# Altium schematic symbol library Resistors.SchLib: 98 symbols (part 1 of 3)
Pins are listed as number, name and electrical type; pins without a type are passive.

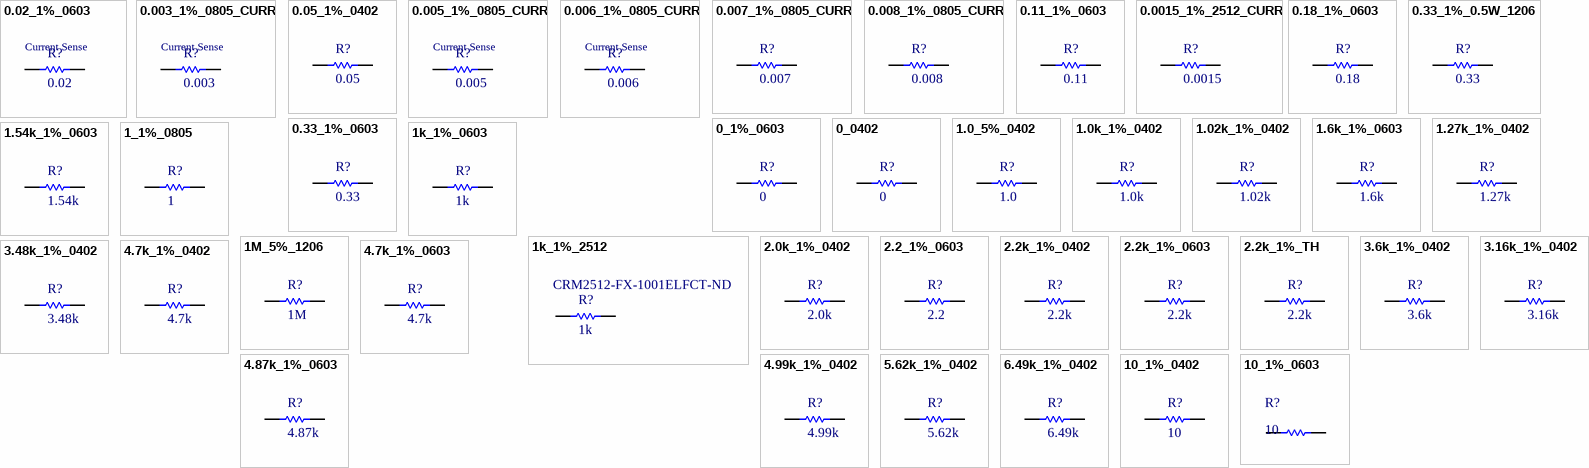
[diagram p0: symbols 0.02_1%_0603 to 10_1%_0603]

## 0.02_1%_0603
designator R?, comment 0.02
RES SMD 0.02 OHM 1% 1/4W 0602; Manufacturer: Samsung Electro-Mechanics America, Inc.; Manufacturer Part Number: RU1608FR020CS; Power (Watts): 0.25W, 1/4W; Temperature Coefficient: ±600ppm/°C; Supplier 1: Digi-Key; RoHS: RoHS Compliant; Category: Resistors; Stock 1: 2469; Pricing 1: 1=0.57, 10=0.482, 25=0.3508, 50=0.2542, 100=0.1885, 250=0.14472, 500=0.114, 1000=0.07892 (CAD); Packaging: Cut Tape (CT); Part Status: Active; Resistance (Ohms): 0.02; Tolerance: ±1%; Composition: Thick Film; Features: Current Sense, Moisture Resistant; Operating Temperature: -55°C ~ 155°C; Package / Case: 0603 (1608 Metric); Supplier Device Package: 0603; Size / Dimension: 0.063" L x 0.031" W (1.60mm x 0.80mm); Height - Seated (Max): 0.022" (0.55mm); Failure Rate: -; ComponentLink1URL: http://media.digikey.com/pdf/Data%20Sheets/Samsung%20PDFs/RU_Series_ds.pdf; ComponentLink1Description: http://media.digikey.com/pdf/Data%20Sheets/Samsung%20PDFs/RU_Series_ds.pdf; Supplier Part Number 1: 1276-6153-1-ND
footprint RES_0603 (Chip Resistor, 2-Leads, Body 1,6x0,8mm, IPC High Density)
pins: 1, 2
text: Current Sense

## 0.003_1%_0805_CURR
designator R?, comment 0.003
RES SMD 0.003 OHM 1% 1/2W 0805; Manufacturer: Rohm Semiconductor; Manufacturer Part Number: PMR10EZPFV3L00; Power (Watts): 0.5W, 1/2W; Temperature Coefficient: ±150ppm/°C; Supplier 1: Digi-Key; RoHS: RoHS Compliant; Category: Resistors; Stock 1: 8056; Pricing 1: 1=0.93, 10=0.782, 25=0.6704, 100=0.525, 250=0.46904, 500=0.37974, 1000=0.30713 (CAD); Packaging: Cut Tape (CT); Part Status: Active; Resistance (Ohms): 0.003; Tolerance: ±1%; Composition: Thick Film; Features: Automotive AEC-Q200, Current Sense; Operating Temperature: -55°C ~ 155°C; Package / Case: 0805 (2012 Metric); Supplier Device Package: 0805; Size / Dimension: 0.079" L x 0.047" W (2.00mm x 1.20mm); Height: 0.022" (0.57mm); Number of Terminations: 2; Failure Rate: -; ComponentLink1URL: http://rohmfs.rohm.com/en/products/databook/datasheet/passive/resistor/chip_resistor/pmr.pdf; ComponentLink1Description: http://rohmfs.rohm.com/en/products/databook/datasheet/passive/resistor/chip_resistor/pmr.pdf; Supplier Part Number 1: RHM.003AJCT-ND
footprint RESC2012X05L (Chip Resistor, 2-Leads, Body 2.00x1.20mm, IPC High Density)
pins: 1, 2
text: Current Sense

## 0.05_1%_0402
designator R?, comment 0.05
RES 0.05 OHM 1% 1/4W 0402; Manufacturer: Panasonic Electronic Components; Manufacturer Part Number: ERJ-2BWFR050X; Power (Watts): 0.25W, 1/4W; Temperature Coefficient: ±300ppm/°C; Supplier 1: Digi-Key; RoHS: RoHS Compliant; Category: Resistors; Stock 1: 1997; Pricing 1: 1=0.45, 10=0.343, 25=0.2608, 50=0.1936, 100=0.144, 250=0.12168, 500=0.1043, 1000=0.07946, 5000=0.06705 (USD); Packaging: Cut Tape (CT); Part Status: Active; Tolerance: ±1%; Composition: Thick Film; Features: Current Sense; Operating Temperature: -55°C ~ 155°C; Package / Case: 0402 (1005 Metric); Supplier Device Package: 0402; Size / Dimension: 0.039" L x 0.020" W (1.00mm x 0.50mm); Height - Seated (Max): 0.016" (0.40mm); Failure Rate: -; ComponentLink1URL: https://industrial.panasonic.com/cdbs/www-data/pdf/RDN0000/AOA0000C313.pdf; ComponentLink1Description: https://industrial.panasonic.com/cdbs/www-data/pdf/RDN0000/AOA0000C313.pdf; Supplier Part Number 1: P17367CT-ND
footprint RES_0402_M (Chip Resistor, 2-Leads, Body 1.00x0.50mm, IPC Medium Density)
pins: 1, 2

## 0.005_1%_0805_CURR
designator R?, comment 0.005
RES SMD 0.005 OHM 1% 1/2W 0805; Manufacturer: Rohm Semiconductor; Manufacturer Part Number: PMR10EZPFU5L00; Power (Watts): 0.5W, 1/2W; Temperature Coefficient: ±150ppm/°C; Supplier 1: Digi-Key; RoHS: RoHS Compliant; Category: Resistors; Stock 1: 17014; Pricing 1: 1=1.24, 10=1.04, 25=0.8912, 50=0.8024, 100=0.6983, 250=0.624, 500=0.50516, 1000=0.40856 (CAD); Packaging: Cut Tape (CT); Part Status: Active; Tolerance: ±1%; Composition: Thick Film; Features: Automotive AEC-Q200, Current Sense; Operating Temperature: -55°C ~ 155°C; Package / Case: 0805 (2012 Metric); Supplier Device Package: 0805; Size / Dimension: 0.079" L x 0.047" W (2.00mm x 1.20mm); Height - Seated (Max): 0.019" (0.47mm); Failure Rate: -; ComponentLink1URL: http://www.rohm.com/web/global/datasheet/PMR18EZPFV/pmr-e; ComponentLink1Description: http://www.rohm.com/web/global/datasheet/PMR18EZPFV/pmr-e; Supplier Part Number 1: RHM.005AJCT-ND
footprint RESC2012X05L (Chip Resistor, 2-Leads, Body 2.00x1.20mm, IPC High Density)
pins: 1, 2
text: Current Sense

## 0.006_1%_0805_CURR
designator R?, comment 0.006
RES SMD 0.006 OHM 1% 1/2W 0805; Manufacturer: Rohm Semiconductor; Manufacturer Part Number: PMR10EZPFU6L00; Power (Watts): 0.5W, 1/2W; Temperature Coefficient: ±150ppm/°C; Supplier 1: Digi-Key; RoHS: RoHS Compliant; Category: Resistors; Stock 1: 9061; Pricing 1: 1=0.9, 10=0.759, 25=0.65, 100=0.5092, 250=0.45496, 500=0.36834, 1000=0.29791 (CAD); Packaging: Cut Tape (CT); Resistance (Ohms): 0.006; Tolerance: ±1%; Composition: Thick Film; Features: Automotive AEC-Q200, Current Sense; Operating Temperature: -55°C ~ 155°C; Package / Case: 0805 (2012 Metric); Supplier Device Package: 0805 (2012 Metric); Size / Dimension: 0.079" L x 0.047" W (2.00mm x 1.20mm); Height: 0.019" (0.47mm); Number of Terminations: 2; ComponentLink1URL: http://rohmfs.rohm.com/en/products/databook/datasheet/passive/resistor/chip_resistor/pmr.pdf; ComponentLink1Description: http://rohmfs.rohm.com/en/products/databook/datasheet/passive/resistor/chip_resistor/pmr.pdf; Supplier Part Number 1: RHM.006AJCT-ND
footprint RESC2012X05L (Chip Resistor, 2-Leads, Body 2.00x1.20mm, IPC High Density)
pins: 1, 2
text: Current Sense

## 0.007_1%_0805_CURR
designator R?, comment 0.007
RES SMD 0.007 OHM 1% 1/2W 0805; Manufacturer: Panasonic; Manufacturer Part Number: ERJ-6LWFR007V; Resistance: 7mR; Temperature Coefficient: 300ppm/°C; Max Power Dissipation: 500mW; Supplier 1: Digi-Key; Stock 1: 725; Pricing 1: 1=0.63, 10=0.482, 25=0.3668, 50=0.2726, 100=0.2026, 250=0.1712, 500=0.1467, 1000=0.1118 (USD); Case/Package: 0805; Case Code (Metric): 2012; Case Code (Imperial): 0805; Min Operating Temperature: -55°C; Max Operating Temperature: 155°C; Packaging: Tape and Reel; Composition: Thick Film; Number of Terminations: 2; Tolerance: 1%; Features: Automotive AEC-Q200; Length: 0.079inch; Height: 0.032inch; Width: 0.049inch; Supplier Part Number 1: P19185CT-ND
footprint RESC2012X05L (Chip Resistor, 2-Leads, Body 2.00x1.20mm, IPC High Density)
pins: 1, 2

## 0.008_1%_0805_CURR
designator R?, comment 0.008
RES SMD 0.008 OHM 1% 1/2W 0805; Manufacturer: Panasonic Electronic Components; Manufacturer Part Number: ERJ-6LWFR008V; Power (Watts): 0.5W, 1/2W; Temperature Coefficient: 0/ +300ppm/°C; Supplier 1: Digi-Key; RoHS: RoHS Compliant; Category: Resistors; Stock 1: 7473; Pricing 1: 1=0.63, 10=0.482, 25=0.3668, 50=0.2726, 100=0.2026, 250=0.1712, 500=0.14674, 1000=0.1118 (USD); Packaging: Cut Tape (CT); Part Status: Active; Tolerance: ±1%; Composition: Thick Film; Features: Current Sense; Operating Temperature: -55°C ~ 125°C; Package / Case: 0805 (2012 Metric); Supplier Device Package: 0805; Size / Dimension: 0.079" L x 0.049" W (2.00mm x 1.25mm); Height - Seated (Max): 0.032" (0.80mm); Failure Rate: -; ComponentLink1URL: https://industrial.panasonic.com/cdbs/www-data/pdf/RDN0000/AOA0000C313.pdf; ComponentLink1Description: https://industrial.panasonic.com/cdbs/www-data/pdf/RDN0000/AOA0000C313.pdf; Supplier Part Number 1: P19186CT-ND
footprint RESC2012X05L (Chip Resistor, 2-Leads, Body 2.00x1.20mm, IPC High Density)
pins: 1, 2

## 0.11_1%_0603
designator R?, comment 0.11
RES SMD 0.11 OHM 1% 1/4W 0603; Manufacturer: Panasonic Electronic Components; Manufacturer Part Number: ERJ-3BSFR11V; Power (Watts): 0.25W, 1/4W; Temperature Coefficient: ±300ppm/°C; Supplier 1: Digi-Key; RoHS: RoHS Compliant; Category: Resistors; Stock 1: 1571; Pricing 1: 1=0.63, 10=0.476, 100=0.1997, 1000=0.11018, 2500=0.1033 (CAD); Packaging: Cut Tape (CT); Part Status: Active; Resistance (Ohms): 0.11; Tolerance: ±1%; Composition: Thick Film; Features: Automotive AEC-Q200, Current Sense; Operating Temperature: -55°C ~ 125°C; Package / Case: 0603 (1608 Metric); Supplier Device Package: 0603; Size / Dimension: 0.063" L x 0.031" W (1.60mm x 0.80mm); Height - Seated (Max): 0.022" (0.55mm); Failure Rate: -; ComponentLink1URL: https://industrial.panasonic.com/cdbs/www-data/pdf/RDN0000/AOA0000C295.pdf; ComponentLink1Description: https://industrial.panasonic.com/cdbs/www-data/pdf/RDN0000/AOA0000C295.pdf; Supplier Part Number 1: P17448CT-ND
footprint RES_0603 (Chip Resistor, 2-Leads, Body 1,6x0,8mm, IPC High Density)
pins: 1, 2

## 0.0015_1%_2512_CURR
designator R?, comment 0.0015
RES 0.0015 OHM 1% 1W 2512; Manufacturer: Panasonic Electronic Components; Manufacturer Part Number: ERJ-M1WTF1M5U; Temperature Coefficient: 250/ +450ppm/°C; Supplier 1: Digi-Key; RoHS: RoHS Compliant; Category: Resistors; Stock 1: 36856; Pricing 1: 1=0.57, 10=0.479, 25=0.4104, 50=0.3692, 100=0.3214, 250=0.28716, 500=0.23248, 1000=0.18803 (USD); Packaging: Cut Tape (CT); Part Status: Active; Tolerance: ±1%; Power (Watts): 1W; Composition: Metal Element; Features: Current Sense; Operating Temperature: -55°C ~ 170°C; Package / Case: 2512 (6432 Metric); Supplier Device Package: 2512; Size / Dimension: 0.252" L x 0.126" W (6.40mm x 3.20mm); Height - Seated (Max): 0.043" (1.10mm); Failure Rate: -; ComponentLink1URL: https://industrial.panasonic.com/cdbs/www-data/pdf/RDN0000/AOA0000C90.pdf; ComponentLink1Description: https://industrial.panasonic.com/cdbs/www-data/pdf/RDN0000/AOA0000C90.pdf; Supplier Part Number 1: P1.5NDCT-ND
footprint RES_2512
pins: 1, 2

## 0.18_1%_0603
designator R?, comment 0.18
RES SMD 0.18 OHM 1% 1/4W 0603; Manufacturer: Panasonic Electronic Components; Manufacturer Part Number: ERJ-3BSFR18V; Power (Watts): 0.25W, 1/4W; Temperature Coefficient: ±300ppm/°C; Supplier 1: Digi-Key; Supplier Part Number 1: P17452CT-ND; RoHS: RoHS Compliant; Category: Resistors; Stock 1: 4986; Pricing 1: 1=0.64, 50=0.2796, 100=0.208, 250=0.17564, 500=0.15054, 1000=0.1147 (CAD); Packaging: Cut Tape (CT); Resistance (Ohms): 0.18; Tolerance: ±1%; Composition: Thick Film; Features: Automotive AEC-Q200, Current Sense; Operating Temperature: -55°C ~ 125°C; Package / Case: 0603 (1608 Metric); Supplier Device Package: 0603; Size / Dimension: 0.063" L x 0.031" W (1.60mm x 0.80mm); Height: 0.022" (0.55mm); Number of Terminations: 2; ComponentLink1URL: https://industrial.panasonic.com/content/data/CC/PDF/news2014/en/AOA0000CE3.pdf; ComponentLink1Description: https://industrial.panasonic.com/content/data/CC/PDF/news2014/en/AOA0000CE3.pdf
footprint RES_0603 (Chip Resistor, 2-Leads, Body 1,6x0,8mm, IPC High Density)
pins: 1, 2

## 0.33_1%_0.5W_1206
designator R?, comment 0.33
RES SMD 0.33 OHM 1% 1/2W 1206; Manufacturer: Panasonic Electronic Components; Manufacturer Part Number: ERJ-8BQFR33V; Power (Watts): 0.5W, 1/2W; Temperature Coefficient: ±250ppm/°C; Supplier 1: Digi-Key; Supplier Part Number 1: P17627CT-ND; RoHS: RoHS Compliant; Category: Resistors; Stock 1: 4895; Pricing 1: 1=0.64, 50=0.2486, 100=0.1824, 250=0.15068, 500=0.12424, 1000=0.08987 (CAD); Packaging: Cut Tape (CT); Resistance (Ohms): 0.33; Tolerance: ±1%; Composition: Thick Film; Features: Automotive AEC-Q200, Current Sense; Operating Temperature: -55°C ~ 125°C; Package / Case: 1206 (3216 Metric); Supplier Device Package: 1206; Size / Dimension: 0.126" L x 0.063" W (3.20mm x 1.60mm); Height: 0.028" (0.70mm); Number of Terminations: 2; ComponentLink1URL: https://industrial.panasonic.com/content/data/CC/PDF/news2014/en/AOA0000CE3.pdf; ComponentLink1Description: https://industrial.panasonic.com/content/data/CC/PDF/news2014/en/AOA0000CE3.pdf
footprint RES_1206 (Chip Resistor 2-Leads, Body 3,1x1,6mm, IPC High Density)
pins: 1, 2

## 0.33_1%_0603
designator R?, comment 0.33
RES SMD 0.33 OHM 1% 1/4W 0603; Manufacturer: Panasonic Electronic Components; Manufacturer Part Number: ERJ-3BQFR33V; Power (Watts): 0.25W, 1/4W; Temperature Coefficient: ±200ppm/°C; Supplier 1: Digi-Key; Supplier Part Number 1: P17396CT-ND; RoHS: RoHS Compliant; Category: Resistors; Stock 1: 3154; Pricing 1: 1=0.61, 50=0.27, 100=0.2002, 250=0.15356, 500=0.12102, 1000=0.08377 (CAD); Packaging: Cut Tape (CT); Resistance (Ohms): 0.33; Tolerance: ±1%; Composition: Thick Film; Features: Automotive AEC-Q200, Current Sense; Operating Temperature: -55°C ~ 125°C; Package / Case: 0603 (1608 Metric); Supplier Device Package: 0603; Size / Dimension: 0.063" L x 0.031" W (1.60mm x 0.80mm); Height: 0.022" (0.55mm); Number of Terminations: 2; ComponentLink1URL: https://industrial.panasonic.com/content/data/CC/PDF/news2014/en/AOA0000CE3.pdf; ComponentLink1Description: https://industrial.panasonic.com/content/data/CC/PDF/news2014/en/AOA0000CE3.pdf
footprint RES_0603 (Chip Resistor, 2-Leads, Body 1,6x0,8mm, IPC High Density)
pins: 1, 2

## 0_1%_0603
designator R?, comment 0
RES SMD 0.0 OHM JUMPER 1/10W; Manufacturer: Panasonic Electronic Components; Manufacturer Part Number: ERJ-3GEY0R00V; Resistance (Ohms): 0.0; Power (Watts): 0.1W, 1/10W; Supplier 1: Digi-Key; Supplier Part Number 1: P0.0GCT-ND; RoHS: RoHS Compliant; Category: Resistors; Stock 1: 5244506; Pricing 1: 1=0.13, 50=0.0168, 100=0.0128, 250=0.0096, 500=0.00706, 1000=0.00471, 2500=0.00398 (CAD); Packaging: Cut Tape (CT); Tolerance: Jumper; Composition: Thick Film; Features: Automotive AEC-Q200; Temperature Coefficient: -; Operating Temperature: -55°C ~ 155°C; Package / Case: 0603 (1608 Metric); Supplier Device Package: 0603; Size / Dimension: 0.063" L x 0.031" W (1.60mm x 0.80mm); Height: 0.022" (0.55mm); Number of Terminations: 2; ComponentLink1URL: http://industrial.panasonic.com/www-cgi/jvcr13pz.cgi?E+PZ+3+AOA0001+ERJ3GEY0R00V+7+WW; ComponentLink1Description: http://industrial.panasonic.com/www-cgi/jvcr13pz.cgi?E+PZ+3+AOA0001+ERJ3GEY0R00V+7+WW
footprint RES_0603 (Chip Resistor, 2-Leads, Body 1,6x0,8mm, IPC High Density)
pins: 1, 2

## 0_0402
designator R?, comment 0
RES SMD 0 OHM JUMPER 1/16W 0402; Manufacturer: Yageo; Manufacturer Part Number: RC0402FR-070RL; Power (Watts): 0.063W, 1/16W; Supplier 1: Digi-Key; RoHS: RoHS Compliant; Category: Resistors; Stock 1: 548262; Pricing 1: 1=0.14, 10=0.017, 25=0.012, 50=0.009, 100=0.0068, 250=0.00516, 500=0.00414, 1000=0.00305, 5000=0.00219 (CAD); Packaging: Cut Tape (CT); Part Status: Active; Tolerance: Jumper; Composition: Thick Film; Features: Moisture Resistant; Temperature Coefficient: -; Operating Temperature: -55°C ~ 155°C; Package / Case: 0402 (1005 Metric); Supplier Device Package: 0402; Size / Dimension: 0.039" L x 0.020" W (1.00mm x 0.50mm); Height - Seated (Max): 0.016" (0.40mm); Failure Rate: -; ComponentLink1URL: http://www.yageo.com/documents/recent/PYu-RC_Group_51_RoHS_L_8.pdf; ComponentLink1Description: http://www.yageo.com/documents/recent/PYu-RC_Group_51_RoHS_L_8.pdf; Supplier Part Number 1: 311-0.0LRCT-ND
footprint RES_0402_M (Chip Resistor, 2-Leads, Body 1.00x0.50mm, IPC Medium Density)
pins: 1, 2

## 1.0_5%_0402
designator R?, comment 1.0
RES SMD 1.0 OHM 5% 1/10W 0402; Manufacturer: Panasonic Electronic Components; Manufacturer Part Number: ERJ-2GEJ1R0X; Resistance (Ohms): 1; Power (Watts): 0.1W, 1/10W; Temperature Coefficient: -100/ +600ppm/°C; Supplier 1: Digi-Key; RoHS: RoHS Compliant; Category: Resistors; Stock 1: 110012; Pricing 1: 1=0.15, 50=0.0202, 100=0.0153, 250=0.0114, 500=0.0084, 1000=0.0056, 5000=0.00394 (CAD); Packaging: Cut Tape (CT); Tolerance: ±5%; Composition: Thick Film; Features: Automotive AEC-Q200; Operating Temperature: -55°C ~ 155°C; Package / Case: 0402 (1005 Metric); Supplier Device Package: 0402; Size / Dimension: 0.039" L x 0.020" W (1.00mm x 0.50mm); Height: 0.016" (0.40mm); Number of Terminations: 2; ComponentLink1URL: http://industrial.panasonic.com/www-cgi/jvcr13pz.cgi?E+PZ+3+AOA0001+ERJ2GEJ1R0X+7+WW; ComponentLink1Description: http://industrial.panasonic.com/www-cgi/jvcr13pz.cgi?E+PZ+3+AOA0001+ERJ2GEJ1R0X+7+WW; Supplier Part Number 1: P1.0JCT-ND
footprint RES_0402_M (Chip Resistor, 2-Leads, Body 1.00x0.50mm, IPC Medium Density)
pins: 1, 2

## 1.0k_1%_0402
designator R?, comment 1.0k
RES SMD 1.0K OHM 1% 1/10W 0402; Manufacturer: Panasonic Electronic Components; Manufacturer Part Number: ERJ-2RKF1001X; Resistance (Ohms): 1k; Power (Watts): 0.1W, 1/10W; Temperature Coefficient: ±100ppm/°C; Supplier 1: Digi-Key; RoHS: RoHS Compliant; Category: Resistors; Stock 1: 9497308; Pricing 1: 1=0.16, 50=0.0242, 100=0.0178, 250=0.0136, 500=0.01092, 1000=0.00803, 5000=0.00575 (CAD); Packaging: Cut Tape (CT); Tolerance: ±1%; Composition: Thick Film; Features: Automotive AEC-Q200; Operating Temperature: -55°C ~ 155°C; Package / Case: 0402 (1005 Metric); Supplier Device Package: 0402; Size / Dimension: 0.039" L x 0.020" W (1.00mm x 0.50mm); Height: 0.016" (0.40mm); Number of Terminations: 2; ComponentLink1URL: http://industrial.panasonic.com/www-cgi/jvcr13pz.cgi?E+PZ+3+AOA0002+ERJ2RKF1001X+7+WW; ComponentLink1Description: http://industrial.panasonic.com/www-cgi/jvcr13pz.cgi?E+PZ+3+AOA0002+ERJ2RKF1001X+7+WW; Supplier Part Number 1: P1.00KLCT-ND
footprint RES_0402_M (Chip Resistor, 2-Leads, Body 1.00x0.50mm, IPC Medium Density)
pins: 1, 2

## 1.02k_1%_0402
designator R?, comment 1.02k
RES SMD 1.02K OHM 1% 1/10W 0402; Manufacturer: Panasonic Electronic Components; Manufacturer Part Number: ERJ-2RKF1021X; Power (Watts): 0.1W, 1/10W; Temperature Coefficient: ±100ppm/°C; Supplier 1: Digi-Key; RoHS: RoHS Compliant; Category: Resistors; Stock 1: 114689; Pricing 1: 1=0.14, 50=0.0282, 100=0.0215, 250=0.01592, 500=0.01176, 1000=0.00784, 5000=0.00551 (CAD); Packaging: Cut Tape (CT); Resistance (Ohms): 1.02k; Tolerance: ±1%; Composition: Thick Film; Features: Automotive AEC-Q200; Operating Temperature: -55°C ~ 155°C; Package / Case: 0402 (1005 Metric); Supplier Device Package: 0402; Size / Dimension: 0.039" L x 0.020" W (1.00mm x 0.50mm); Height: 0.016" (0.40mm); Number of Terminations: 2; ComponentLink1URL: http://industrial.panasonic.com/www-cgi/jvcr13pz.cgi?E+PZ+3+AOA0002+ERJ2RKF1021X+7+WW; ComponentLink1Description: http://industrial.panasonic.com/www-cgi/jvcr13pz.cgi?E+PZ+3+AOA0002+ERJ2RKF1021X+7+WW; Supplier Part Number 1: P1.02KLCT-ND
footprint RES_0402_M (Chip Resistor, 2-Leads, Body 1.00x0.50mm, IPC Medium Density)
pins: 1, 2

## 1.6k_1%_0603
designator R?, comment 1.6k
RES SMD 1.6K OHM 1% 1/10W 0603; Manufacturer: Panasonic Electronic Components; Manufacturer Part Number: ERJ-3GEYJ162V; Tolerance: ±5%; Power (Watts): 0.1W, 1/10W; Temperature Coefficient: ±200ppm/°C; Supplier 1: Digi-Key; RoHS: RoHS Compliant; Category: Resistors; Stock 1: 37004; Pricing 1: 1=0.15, 50=0.0148, 100=0.011, 250=0.0084, 500=0.00672, 1000=0.00495 (CAD); Packaging: Cut Tape (CT); Resistance (Ohms): 1.6k; Composition: Thick Film; Features: Automotive AEC-Q200; Operating Temperature: -55°C ~ 155°C; Package / Case: 0603 (1608 Metric); Supplier Device Package: 0603; Size / Dimension: 0.063" L x 0.031" W (1.60mm x 0.80mm); Height: 0.022" (0.55mm); Number of Terminations: 2; ComponentLink1URL: http://industrial.panasonic.com/www-cgi/jvcr13pz.cgi?E+PZ+3+AOA0001+ERJ3GEYJ162V+7+WW; ComponentLink1Description: http://industrial.panasonic.com/www-cgi/jvcr13pz.cgi?E+PZ+3+AOA0001+ERJ3GEYJ162V+7+WW; Supplier Part Number 1: P1.6KGCT-ND
footprint RES_0603 (Chip Resistor, 2-Leads, Body 1,6x0,8mm, IPC High Density)
pins: 1, 2

## 1.27k_1%_0402
designator R?, comment 1.27k
RES SMD 1.27k OHM 1% 1/10W 0402; Manufacturer: Panasonic Electronic Components; Manufacturer Part Number: ERJ-2RKF1271X; Power (Watts): 0.1W, 1/10W; Temperature Coefficient: ±100ppm/°C; Supplier 1: Digi-Key; RoHS: RoHS Compliant; Category: Resistors; Stock 1: 83900; Pricing 1: 1=0.15, 50=0.0188, 100=0.0138, 250=0.01048, 500=0.00838, 1000=0.00618, 5000=0.00443 (CAD); Packaging: Cut Tape (CT); Resistance (Ohms): 1.27k; Tolerance: ±1%; Composition: Thick Film; Features: Automotive AEC-Q200; Operating Temperature: -55°C ~ 155°C; Package / Case: 0402 (1005 Metric); Supplier Device Package: 0402; Size / Dimension: 0.039" L x 0.020" W (1.00mm x 0.50mm); Height: 0.016" (0.40mm); Number of Terminations: 2; ComponentLink1URL: http://industrial.panasonic.com/www-cgi/jvcr13pz.cgi?E+PZ+3+AOA0002+ERJ2RKF1271X+7+WW; ComponentLink1Description: http://industrial.panasonic.com/www-cgi/jvcr13pz.cgi?E+PZ+3+AOA0002+ERJ2RKF1271X+7+WW; Supplier Part Number 1: P1.27KLCT-ND
footprint RES_0402_M (Chip Resistor, 2-Leads, Body 1.00x0.50mm, IPC Medium Density)
pins: 1, 2

## 1.54k_1%_0603
designator R?, comment 1.54k
RES SMD 1.54K OHM 1% 1/10W 0603; Manufacturer: Yageo; Manufacturer Part Number: RC0603FR-071K54L; Power (Watts): 0.1W, 1/10W; Temperature Coefficient: ±100ppm/°C; Supplier 1: Digi-Key; RoHS: RoHS Compliant; Category: Resistors; Stock 1: 94259; Pricing 1: 1=0.15, 10=0.022, 25=0.0156, 100=0.0088, 250=0.00672, 500=0.00538, 1000=0.00397, 2500=0.00344 (CAD); Packaging: Cut Tape (CT); Resistance (Ohms): 1.54k; Tolerance: ±1%; Composition: Thick Film; Features: Moisture Resistant; Operating Temperature: -55°C ~ 155°C; Package / Case: 0603 (1608 Metric); Supplier Device Package: 0603; Size / Dimension: 0.063" L x 0.031" W (1.60mm x 0.80mm); Height: 0.022" (0.55mm); Number of Terminations: 2; ComponentLink1URL: http://www.yageo.com/NewPortal/yageodocoutput?fileName=/pdf/R-Chip/PYu-RC_Group_51_RoHS_L_3.pdf; ComponentLink1Description: http://www.yageo.com/NewPortal/yageodocoutput?fileName=/pdf/R-Chip/PYu-RC_Group_51_RoHS_L_3.pdf; Supplier Part Number 1: 311-1.54KHRCT-ND
footprint RES_0603 (Chip Resistor, 2-Leads, Body 1,6x0,8mm, IPC High Density)
pins: 1, 2

## 1_1%_0805
designator R?, comment 1
RES SMD 1 OHM 1% 1/8W 0805; Manufacturer: Yageo; Manufacturer Part Number: RC0805FR-071RL; Resistance: 1R; Power Rating: 125mW; Temperature Coefficient: 200ppm/°C; Voltage Rating: 150V; Supplier 1: Digi-Key; Supplier Part Number 1: 311-1.00CRTR-ND; Stock 1: 200000; Pricing 1: 5000=0.0109, 10000=0.00947, 25000=0.00832, 50000=0.00763, 125000=0.00748 (USD); Case/Package: 0805; Case Code (Imperial): 0805; Case Code (Metric): 2012; Min Operating Temperature: -55°C; Max Operating Temperature: 155°C; Packaging: Tape and Reel; Tolerance: 1%; Composition: Thick Film; Number of Terminations: 2; Max Power Dissipation: 125mW; Package Quantity: 1; Termination: SMD/SMT; Military Standard: Not; Features: Moisture Resistant; Length: 2mm; Height: 0.024inch; Width: 0.049inch; Depth: 1.25mm; REACH SVHC: Unknown; Lead Free: Lead Free; ComponentLink1URL: https://datasheet.ciiva.com/7941/444164-7941736.pdf; ComponentLink1Description: https://datasheet.ciiva.com/7941/444164-7941736.pdf; ComponentLink2URL: https://datasheet.ciiva.com/7941/444164-7941737.pdf; ComponentLink2Description: https://datasheet.ciiva.com/7941/444164-7941737.pdf; ComponentLink3URL: https://datasheet.ciiva.com/2459/pyu-r-int-thick-7-2459661.pdf; ComponentLink3Description: https://datasheet.ciiva.com/2459/pyu-r-int-thick-7-2459661.pdf; ComponentLink4URL: https://datasheet.ciiva.com/11808/0900766b8106beab-11808253.pdf; ComponentLink4Description: https://datasheet.ciiva.com/11808/0900766b8106beab-11808253.pdf; ComponentLink5URL: https://datasheet.ciiva.com/2459/pyu-r-int-thick-7-2459662.pdf; ComponentLink5Description: https://datasheet.ciiva.com/2459/pyu-r-int-thick-7-2459662.pdf; ComponentLink6URL: https://datasheet.ciiva.com/2459/pyu-r-int-thick-7-2459663.pdf; ComponentLink6Description: https://datasheet.ciiva.com/2459/pyu-r-int-thick-7-2459663.pdf
footprint RES_0805 (Chip Resistor 2-Leads, Body 2,0x1,3mm, IPC Medium Density)
pins: 1, 2

## 1k_1%_0603
designator R?, comment 1k
RES SMD 1K OHM 1% 1/10W 0603; Manufacturer: Panasonic Electronic Components; Manufacturer Part Number: ERJ-3EKF1001V; Power (Watts): 0.1W, 1/10W; Temperature Coefficient: ±100ppm/°C; Supplier 1: Digi-Key; Supplier Part Number 1: P1.00KHCT-ND; RoHS: RoHS Compliant; Category: Resistors; Stock 1: 4581736; Pricing 1: 1=0.14, 50=0.0206, 100=0.0157, 250=0.01164, 500=0.0086, 1000=0.00574, 2500=0.00484 (CAD); Packaging: Cut Tape (CT); Resistance (Ohms): 1k; Tolerance: ±1%; Composition: Thick Film; Features: Automotive AEC-Q200; Operating Temperature: -55°C ~ 155°C; Package / Case: 0603 (1608 Metric); Supplier Device Package: 0603; Size / Dimension: 0.063" L x 0.031" W (1.60mm x 0.80mm); Height: 0.022" (0.55mm); Number of Terminations: 2; ComponentLink1URL: http://industrial.panasonic.com/www-cgi/jvcr13pz.cgi?E+PZ+3+AOA0002+ERJ3EKF1001V+7+WW; ComponentLink1Description: http://industrial.panasonic.com/www-cgi/jvcr13pz.cgi?E+PZ+3+AOA0002+ERJ3EKF1001V+7+WW
footprint RES_0603 (Chip Resistor, 2-Leads, Body 1,6x0,8mm, IPC High Density)
pins: 1, 2

## 1k_1%_2512
designator R?, comment 1k  Supplier Part Number 1: CRM2512-FX-1001ELFCT-ND
RES SMD 1K OHM 1% 2W 2512; Manufacturer: Bourns Inc.; Manufacturer Part Number: CRM2512-FX-1001ELF; Temperature Coefficient: ±100ppm/°C; Supplier 1: Digi-Key; RoHS: RoHS Compliant; Category: Resistors; Stock 1: 85751; Pricing 1: 1=0.67, 10=0.507, 25=0.386, 50=0.2864, 100=0.213, 250=0.17996, 500=0.15426, 1000=0.11751 (CAD); Packaging: Cut Tape (CT); Part Status: Active; Tolerance: ±1%; Power (Watts): 2W; Composition: Thick Film; Features: Current Sense; Operating Temperature: -55°C ~ 155°C; Package / Case: 2512 (6432 Metric); Supplier Device Package: 2512; Size / Dimension: 0.248" L x 0.122" W (6.30mm x 3.10mm); Height - Seated (Max): 0.032" (0.80mm); Failure Rate: -; ComponentLink1URL: http://www.bourns.com/docs/Product-Datasheets/CRM.pdf; ComponentLink1Description: http://www.bourns.com/docs/Product-Datasheets/CRM.pdf
footprint RES_2512
pins: 1, 2

## 1M_5%_1206
designator R?, comment 1M
RES SMD 1M OHM 5% 1/4W 1206; Manufacturer: Panasonic Electronic Components; Manufacturer Part Number: ERJ-8GEYJ105V; Power (Watts): 0.25W, 1/4W; Temperature Coefficient: ±200ppm/°C; Supplier 1: Digi-Key; Supplier Part Number 1: P1.0MECT-ND; RoHS: RoHS Compliant; Category: Resistors; Stock 1: 165352; Pricing 1: 1=0.14, 50=0.038, 100=0.029, 250=0.02152, 500=0.01588, 1000=0.01059, 2500=0.00894 (CAD); Packaging: Cut Tape (CT); Resistance (Ohms): 1M; Tolerance: ±5%; Composition: Thick Film; Features: Automotive AEC-Q200; Operating Temperature: -55°C ~ 155°C; Package / Case: 1206 (3216 Metric); Supplier Device Package: 1206; Size / Dimension: 0.126" L x 0.063" W (3.20mm x 1.60mm); Height: 0.028" (0.70mm); Number of Terminations: 2; ComponentLink1URL: http://industrial.panasonic.com/www-cgi/jvcr13pz.cgi?E+PZ+3+AOA0001+ERJ8GEYJ105V+7+WW; ComponentLink1Description: http://industrial.panasonic.com/www-cgi/jvcr13pz.cgi?E+PZ+3+AOA0001+ERJ8GEYJ105V+7+WW
footprint RES_1206 (Chip Resistor 2-Leads, Body 3,1x1,6mm, IPC High Density)
pins: 1, 2

## 2.0k_1%_0402
designator R?, comment 2.0k
RES SMD 2.0K OHM 1% 1/10W 0402; Manufacturer: Panasonic Electronic Components; Manufacturer Part Number: ERJ-2RKF2001X; Power (Watts): 0.1W, 1/10W; Temperature Coefficient: ±100ppm/°C; Supplier 1: Digi-Key; RoHS: RoHS Compliant; Category: Resistors; Stock 1: 4840500; Pricing 1: 1=0.1, 10=0.046, 100=0.0189, 1000=0.00884, 2500=0.00775, 5000=0.00651 (USD); Packaging: Cut Tape (CT); Part Status: Active; Tolerance: ±1%; Composition: Thick Film; Features: Automotive AEC-Q200; Operating Temperature: -55°C ~ 155°C; Package / Case: 0402 (1005 Metric); Supplier Device Package: 0402; Size / Dimension: 0.039" L x 0.020" W (1.00mm x 0.50mm); Height - Seated (Max): 0.016" (0.40mm); Failure Rate: -; ComponentLink1URL: https://industrial.panasonic.com/cdbs/www-data/pdf/RDA0000/AOA0000C304.pdf; ComponentLink1Description: https://industrial.panasonic.com/cdbs/www-data/pdf/RDA0000/AOA0000C304.pdf; Supplier Part Number 1: P2.00KLCT-ND
footprint RES_0402_l (Chip Resistor, 2-Leads, Body 1.00x0.50mm, IPC High Density)
pins: 1, 2

## 2.2_1%_0603
designator R?, comment 2.2
RES SMD 2.2 OHM 1% 1/10W 0603; Manufacturer: Yageo; Manufacturer Part Number: RC0603FR-072R2L; Power (Watts): 0.1W, 1/10W; Temperature Coefficient: ±200ppm/°C; Supplier 1: Digi-Key; Supplier Part Number 1: 311-2.2HRCT-ND; RoHS: RoHS Compliant; Category: Resistors; Stock 1: 159289; Pricing 1: 1=0.15, 10=0.03, 25=0.0216, 100=0.0123, 250=0.0094, 500=0.0075, 1000=0.00552, 2500=0.0048 (CAD); Packaging: Cut Tape (CT); Part Status: Active; Resistance (Ohms): 2.2; Tolerance: ±1%; Composition: Thick Film; Features: Moisture Resistant; Operating Temperature: -55°C ~ 155°C; Package / Case: 0603 (1608 Metric); Supplier Device Package: 0603; Size / Dimension: 0.063" L x 0.031" W (1.60mm x 0.80mm); Height - Seated (Max): 0.022" (0.55mm); Number of Terminations: 2; Failure Rate: -; ComponentLink1URL: http://www.yageo.com/NewPortal/yageodocoutput?fileName=/pdf/R-Chip/PYu-RC_Group_51_RoHS_L_4.pdf; ComponentLink1Description: http://www.yageo.com/NewPortal/yageodocoutput?fileName=/pdf/R-Chip/PYu-RC_Group_51_RoHS_L_4.pdf
footprint RES_0603_S (Chip Resistor,  Body  1.6mm(L) x 0.80mm(W) x 0.45mm(H))
pins: 1, 2

## 2.2k_1%_0402
designator R?, comment 2.2k
RES SMD 2.2K OHM 1% 1/10W 0402; Manufacturer: Panasonic Electronic Components; Manufacturer Part Number: ERJ-2RKF2201X; Power (Watts): 0.1W, 1/10W; Temperature Coefficient: ±100ppm/°C; Supplier 1: Digi-Key; RoHS: RoHS Compliant; Category: Resistors; Stock 1: 2451295; Pricing 1: 1=0.16, 50=0.0242, 100=0.0178, 250=0.0136, 500=0.01092, 1000=0.00803, 5000=0.00575 (CAD); Packaging: Cut Tape (CT); Resistance (Ohms): 2.2k; Tolerance: ±1%; Composition: Thick Film; Features: Automotive AEC-Q200; Operating Temperature: -55°C ~ 155°C; Package / Case: 0402 (1005 Metric); Supplier Device Package: 0402; Size / Dimension: 0.039" L x 0.020" W (1.00mm x 0.50mm); Height: 0.016" (0.40mm); Number of Terminations: 2; ComponentLink1URL: http://industrial.panasonic.com/www-cgi/jvcr13pz.cgi?E+PZ+3+AOA0002+ERJ2RKF2201X+7+WW; ComponentLink1Description: http://industrial.panasonic.com/www-cgi/jvcr13pz.cgi?E+PZ+3+AOA0002+ERJ2RKF2201X+7+WW; Supplier Part Number 1: P2.20KLCT-ND
footprint RES_0402_M (Chip Resistor, 2-Leads, Body 1.00x0.50mm, IPC Medium Density)
pins: 1, 2

## 2.2k_1%_0603
designator R?, comment 2.2k
RES SMD 2.2K OHM 1% 1/10W 0603; Manufacturer: Panasonic Electronic Components; Manufacturer Part Number: ERJ-3EKF2201V; Power (Watts): 0.1W, 1/10W; Temperature Coefficient: ±100ppm/°C; Supplier 1: Digi-Key; Supplier Part Number 1: P2.20KHCT-ND; RoHS: RoHS Compliant; Category: Resistors; Stock 1: 459215; Pricing 1: 1=0.13, 50=0.02, 100=0.0153, 250=0.01128, 500=0.00836, 1000=0.00557, 2500=0.0047 (CAD); Packaging: Cut Tape (CT); Resistance (Ohms): 2.2k; Tolerance: ±1%; Composition: Thick Film; Features: Automotive AEC-Q200; Operating Temperature: -55°C ~ 155°C; Package / Case: 0603 (1608 Metric); Supplier Device Package: 0603; Size / Dimension: 0.063" L x 0.031" W (1.60mm x 0.80mm); Height: 0.022" (0.55mm); Number of Terminations: 2; ComponentLink1URL: http://industrial.panasonic.com/www-cgi/jvcr13pz.cgi?E+PZ+3+AOA0002+ERJ3EKF2201V+7+WW; ComponentLink1Description: http://industrial.panasonic.com/www-cgi/jvcr13pz.cgi?E+PZ+3+AOA0002+ERJ3EKF2201V+7+WW
footprint RES_0603 (Chip Resistor, 2-Leads, Body 1,6x0,8mm, IPC High Density)
pins: 1, 2

## 2.2k_1%_TH
designator R?, comment 2.2k
RES 2.2K OHM 1/4W 1% AXIAL; Manufacturer: Stackpole Electronics; Manufacturer Part Number: RNMF14FTC2K20; Resistance: 2.2kR; Max Power Dissipation: 250mW; Temperature Coefficient: 50ppm/°C; Supplier 1: Digi-Key; Supplier Part Number 1: S2.2KCACT-ND; Stock 1: 179901; Pricing 1: 1=0.1, 10=0.072, 25=0.052, 50=0.0396, 100=0.0292, 250=0.02228, 500=0.01782, 1000=0.01312 (USD); Mount: Through Hole; Case/Package: Axial; Contact Plating: Tin,Matte; Min Operating Temperature: -55°C; Max Operating Temperature: 155°C; Tolerance: 1%; Package Quantity: 1; Packaging: Tape and Reel; Composition: Metal Film; Number of Terminations: 2; Diameter: 2.35mm; Length: 0.13inch; Radiation Hardening: No; ComponentLink1URL: http://www.seielect.com/Catalog/SEI-RNF_RNMF.pdf; ComponentLink1Description: http://www.seielect.com/Catalog/SEI-RNF_RNMF.pdf; ComponentLink2URL: https://www.seielect.com/catalog/SEI-Packaging.pdf; ComponentLink2Description: https://www.seielect.com/catalog/SEI-Packaging.pdf
footprint Axial 0.2
pins: 1, 2

## 3.6k_1%_0402
designator R?, comment 3.6k
RES SMD 3.6K OHM 1% 1/10W 0402; Manufacturer: Panasonic Electronic Components; Manufacturer Part Number: ERJ-2RKF3601X; Power (Watts): 0.1W, 1/10W; Temperature Coefficient: ±100ppm/°C; Supplier 1: Digi-Key; RoHS: RoHS Compliant; Category: Resistors; Stock 1: 239492; Pricing 1: 1=0.1, 10=0.045, 100=0.0183, 1000=0.00823, 2500=0.00715, 5000=0.0059 (USD); Packaging: Cut Tape (CT); Part Status: Active; Tolerance: ±1%; Composition: Thick Film; Features: Automotive AEC-Q200; Operating Temperature: -55°C ~ 155°C; Package / Case: 0402 (1005 Metric); Supplier Device Package: 0402; Size / Dimension: 0.039" L x 0.020" W (1.00mm x 0.50mm); Height - Seated (Max): 0.016" (0.40mm); Failure Rate: -; ComponentLink1URL: https://industrial.panasonic.com/cdbs/www-data/pdf/RDA0000/AOA0000C304.pdf; ComponentLink1Description: https://industrial.panasonic.com/cdbs/www-data/pdf/RDA0000/AOA0000C304.pdf; Supplier Part Number 1: P3.60KLCT-ND
footprint RES_0402_l (Chip Resistor, 2-Leads, Body 1.00x0.50mm, IPC High Density)
pins: 1, 2

## 3.16k_1%_0402
designator R?, comment 3.16k
RES SMD 3.16K OHM 1% 1/10W 0402; Manufacturer: Panasonic Electronic Components; Manufacturer Part Number: ERJ-2RKF3161X; Power (Watts): 0.1W, 1/10W; Temperature Coefficient: ±100ppm/°C; Supplier 1: Digi-Key; Supplier Part Number 1: P3.16KLCT-ND; RoHS: RoHS Compliant; Category: Resistors; Stock 1: 172755; Pricing 1: 1=0.16, 50=0.0242, 100=0.0178, 250=0.0136, 500=0.01092, 1000=0.00803, 5000=0.00575 (CAD); Packaging: Cut Tape (CT); Resistance (Ohms): 3.16k; Tolerance: ±1%; Composition: Thick Film; Features: Automotive AEC-Q200; Operating Temperature: -55°C ~ 155°C; Package / Case: 0402 (1005 Metric); Supplier Device Package: 0402; Size / Dimension: 0.039" L x 0.020" W (1.00mm x 0.50mm); Height: 0.016" (0.40mm); Number of Terminations: 2; ComponentLink1URL: http://industrial.panasonic.com/www-cgi/jvcr13pz.cgi?E+PZ+3+AOA0002+ERJ2RKF3161X+7+WW; ComponentLink1Description: http://industrial.panasonic.com/www-cgi/jvcr13pz.cgi?E+PZ+3+AOA0002+ERJ2RKF3161X+7+WW
footprint RES_0402_M (Chip Resistor, 2-Leads, Body 1.00x0.50mm, IPC Medium Density)
pins: 1, 2

## 3.48k_1%_0402
designator R?, comment 3.48k
RES SMD 3.48K OHM 1% 1/10W 0402; Manufacturer: Panasonic Electronic Components; Manufacturer Part Number: ERJ-2RKF3481X; Power (Watts): 0.1W, 1/10W; Temperature Coefficient: ±100ppm/°C; Supplier 1: Digi-Key; RoHS: RoHS Compliant; Category: Resistors; Stock 1: 375891; Pricing 1: 1=0.1, 10=0.046, 100=0.019, 1000=0.00889, 2500=0.00781, 5000=0.00656 (USD); Packaging: Cut Tape (CT); Part Status: Active; Tolerance: ±1%; Composition: Thick Film; Features: Automotive AEC-Q200; Operating Temperature: -55°C ~ 155°C; Package / Case: 0402 (1005 Metric); Supplier Device Package: 0402; Size / Dimension: 0.039" L x 0.020" W (1.00mm x 0.50mm); Height - Seated (Max): 0.016" (0.40mm); Failure Rate: -; ComponentLink1URL: https://industrial.panasonic.com/cdbs/www-data/pdf/RDA0000/AOA0000C304.pdf; ComponentLink1Description: https://industrial.panasonic.com/cdbs/www-data/pdf/RDA0000/AOA0000C304.pdf; Supplier Part Number 1: P3.48KLCT-ND
footprint RES_0402_L (Chip Resistor, 2-Leads, Body 1.00x0.50mm, IPC High Density)
pins: 1, 2

## 4.7k_1%_0402
designator R?, comment 4.7k
RES SMD 4.7K OHM 1% 1/10W 0402; Manufacturer: Panasonic Electronic Components; Manufacturer Part Number: ERJ-2RKF4701X; Power (Watts): 0.1W, 1/10W; Temperature Coefficient: ±100ppm/°C; Supplier 1: Digi-Key; RoHS: RoHS Compliant; Category: Resistors; Stock 1: 13745517; Pricing 1: 1=0.1, 10=0.046, 100=0.019, 1000=0.00889, 2500=0.00781, 5000=0.00656 (USD); Packaging: Cut Tape (CT); Part Status: Active; Tolerance: ±1%; Composition: Thick Film; Features: Automotive AEC-Q200; Operating Temperature: -55°C ~ 155°C; Package / Case: 0402 (1005 Metric); Supplier Device Package: 0402; Size / Dimension: 0.039" L x 0.020" W (1.00mm x 0.50mm); Height - Seated (Max): 0.016" (0.40mm); Failure Rate: -; ComponentLink1URL: https://industrial.panasonic.com/cdbs/www-data/pdf/RDA0000/AOA0000C304.pdf; ComponentLink1Description: https://industrial.panasonic.com/cdbs/www-data/pdf/RDA0000/AOA0000C304.pdf; Supplier Part Number 1: P4.70KLCT-ND
footprint RES_0402_L (Chip Resistor, 2-Leads, Body 1.00x0.50mm, IPC High Density)
pins: 1, 2

## 4.7k_1%_0603
designator R?, comment 4.7k
RES SMD 4.7K OHM 5% 1/10W 0603; Manufacturer: Panasonic Electronic Components; Manufacturer Part Number: ERJ-3GEYJ472V; Power (Watts): 0.1W, 1/10W; Temperature Coefficient: ±200ppm/°C; Supplier 1: Digi-Key; Supplier Part Number 1: P4.7KGCT-ND; RoHS: RoHS Compliant; Category: Resistors; Stock 1: 1396285; Pricing 1: 1=0.13, 50=0.0168, 100=0.0128, 250=0.0096, 500=0.00706, 1000=0.00471, 2500=0.00398 (CAD); Packaging: Cut Tape (CT); Resistance (Ohms): 4.7k; Tolerance: ±5%; Composition: Thick Film; Features: Automotive AEC-Q200; Operating Temperature: -55°C ~ 155°C; Package / Case: 0603 (1608 Metric); Supplier Device Package: 0603; Size / Dimension: 0.063" L x 0.031" W (1.60mm x 0.80mm); Height: 0.022" (0.55mm); Number of Terminations: 2; ComponentLink1URL: http://industrial.panasonic.com/www-cgi/jvcr13pz.cgi?E+PZ+3+AOA0001+ERJ3GEYJ472V+7+WW; ComponentLink1Description: http://industrial.panasonic.com/www-cgi/jvcr13pz.cgi?E+PZ+3+AOA0001+ERJ3GEYJ472V+7+WW
footprint RES_0603 (Chip Resistor, 2-Leads, Body 1,6x0,8mm, IPC High Density)
pins: 1, 2

## 4.87k_1%_0603
designator R?, comment 4.87k
RES SMD 4.87K OHM 1% 1/10W 0603; Manufacturer: Panasonic Electronic Components; Manufacturer Part Number: ERJ-3EKF4871V; Power (Watts): 0.1W, 1/10W; Temperature Coefficient: ±100ppm/°C; Supplier 1: Digi-Key; Supplier Part Number 1: P4.87KHCT-ND; RoHS: RoHS Compliant; Category: Resistors; Stock 1: 135561; Pricing 1: 1=0.13, 50=0.02, 100=0.0153, 250=0.01128, 500=0.00836, 1000=0.00557, 2500=0.0047 (CAD); Packaging: Cut Tape (CT); Resistance (Ohms): 4.87k; Tolerance: ±1%; Composition: Thick Film; Features: Automotive AEC-Q200; Operating Temperature: -55°C ~ 155°C; Package / Case: 0603 (1608 Metric); Supplier Device Package: 0603; Size / Dimension: 0.063" L x 0.031" W (1.60mm x 0.80mm); Height: 0.022" (0.55mm); Number of Terminations: 2; ComponentLink1URL: http://industrial.panasonic.com/www-cgi/jvcr13pz.cgi?E+PZ+3+AOA0002+ERJ3EKF4871V+7+WW; ComponentLink1Description: http://industrial.panasonic.com/www-cgi/jvcr13pz.cgi?E+PZ+3+AOA0002+ERJ3EKF4871V+7+WW
footprint RES_0603 (Chip Resistor, 2-Leads, Body 1,6x0,8mm, IPC High Density)
pins: 1, 2

## 4.99k_1%_0402
designator R?, comment 4.99k
RES SMD 4.99K OHM 1% 1/10W 0402; Manufacturer: Panasonic Electronic Components; Manufacturer Part Number: ERJ-2RKF4991X; Power (Watts): 0.1W, 1/10W; Temperature Coefficient: ±100ppm/°C; Supplier 1: Digi-Key; RoHS: RoHS Compliant; Category: Resistors; Stock 1: 1765461; Pricing 1: 1=0.16, 50=0.0242, 100=0.0178, 250=0.0136, 500=0.01092, 1000=0.00803, 5000=0.00575 (CAD); Packaging: Cut Tape (CT); Resistance (Ohms): 4.99k; Tolerance: ±1%; Composition: Thick Film; Features: Automotive AEC-Q200; Operating Temperature: -55°C ~ 155°C; Package / Case: 0402 (1005 Metric); Supplier Device Package: 0402; Size / Dimension: 0.039" L x 0.020" W (1.00mm x 0.50mm); Height: 0.016" (0.40mm); Number of Terminations: 2; ComponentLink1URL: http://industrial.panasonic.com/www-cgi/jvcr13pz.cgi?E+PZ+3+AOA0002+ERJ2RKF4991X+7+WW; ComponentLink1Description: http://industrial.panasonic.com/www-cgi/jvcr13pz.cgi?E+PZ+3+AOA0002+ERJ2RKF4991X+7+WW; Supplier Part Number 1: P4.99KLCT-ND
footprint RES_0402_M (Chip Resistor, 2-Leads, Body 1.00x0.50mm, IPC Medium Density)
pins: 1, 2

## 5.62k_1%_0402
designator R?, comment 5.62k
RES SMD 5.62K OHM 1% 1/10W 0402; Manufacturer: Panasonic Electronic Components; Manufacturer Part Number: ERJ-2RKF5621X; Power (Watts): 0.1W, 1/10W; Temperature Coefficient: ±100ppm/°C; Supplier 1: Digi-Key; RoHS: RoHS Compliant; Category: Resistors; Stock 1: 165459; Pricing 1: 1=0.14, 50=0.0282, 100=0.0215, 250=0.01592, 500=0.01176, 1000=0.00784, 5000=0.00551 (CAD); Packaging: Cut Tape (CT); Resistance (Ohms): 5.62k; Tolerance: ±1%; Composition: Thick Film; Features: Automotive AEC-Q200; Operating Temperature: -55°C ~ 155°C; Package / Case: 0402 (1005 Metric); Supplier Device Package: 0402; Size / Dimension: 0.039" L x 0.020" W (1.00mm x 0.50mm); Height: 0.016" (0.40mm); Number of Terminations: 2; ComponentLink1URL: http://industrial.panasonic.com/www-cgi/jvcr13pz.cgi?E+PZ+3+AOA0002+ERJ2RKF5621X+7+WW; ComponentLink1Description: http://industrial.panasonic.com/www-cgi/jvcr13pz.cgi?E+PZ+3+AOA0002+ERJ2RKF5621X+7+WW; Supplier Part Number 1: P5.62KLCT-ND
footprint RES_0402_M (Chip Resistor, 2-Leads, Body 1.00x0.50mm, IPC Medium Density)
pins: 1, 2

## 6.49k_1%_0402
designator R?, comment 6.49k
RES SMD 6.49K OHM 1% 1/10W 0402; Manufacturer: Panasonic Electronic Components; Manufacturer Part Number: ERJ-2RKF6491X; Power (Watts): 0.1W, 1/10W; Temperature Coefficient: ±100ppm/°C; Supplier 1: Digi-Key; RoHS: RoHS Compliant; Category: Resistors; Stock 1: 184028; Pricing 1: 1=0.16, 50=0.0242, 100=0.0178, 250=0.0136, 500=0.01092, 1000=0.00803, 5000=0.00575 (CAD); Packaging: Cut Tape (CT); Resistance (Ohms): 6.49k; Tolerance: ±1%; Composition: Thick Film; Features: Automotive AEC-Q200; Operating Temperature: -55°C ~ 155°C; Package / Case: 0402 (1005 Metric); Supplier Device Package: 0402; Size / Dimension: 0.039" L x 0.020" W (1.00mm x 0.50mm); Height: 0.016" (0.40mm); Number of Terminations: 2; ComponentLink1URL: http://industrial.panasonic.com/www-cgi/jvcr13pz.cgi?E+PZ+3+AOA0002+ERJ2RKF6491X+7+WW; ComponentLink1Description: http://industrial.panasonic.com/www-cgi/jvcr13pz.cgi?E+PZ+3+AOA0002+ERJ2RKF6491X+7+WW; Supplier Part Number 1: P6.49KLCT-ND
footprint RES_0402_M (Chip Resistor, 2-Leads, Body 1.00x0.50mm, IPC Medium Density)
pins: 1, 2

## 10_1%_0402
designator R?, comment 10
RES SMD 10 OHM 5% 1/10W 0402; Manufacturer: Panasonic Electronic Components; Manufacturer Part Number: ERJ-2RKF10R0X; Tolerance: ±1%; Power (Watts): 0.1W, 1/10W; Temperature Coefficient: ±100ppm/°C; Supplier 1: Digi-Key; Supplier Part Number 1: P10.0LCT-ND; RoHS: RoHS Compliant; Category: Resistors; Stock 1: 1896409; Pricing 1: 1=0.15, 50=0.0222, 100=0.0163, 250=0.01248, 500=0.01002, 1000=0.00737, 5000=0.00528 (CAD); Packaging: Cut Tape (CT); Resistance (Ohms): 10; Composition: Thick Film; Features: Automotive AEC-Q200; Operating Temperature: -55°C ~ 155°C; Package / Case: 0402 (1005 Metric); Supplier Device Package: 0402; Size / Dimension: 0.039" L x 0.020" W (1.00mm x 0.50mm); Height: 0.016" (0.40mm); Number of Terminations: 2; ComponentLink1URL: http://industrial.panasonic.com/www-cgi/jvcr13pz.cgi?E+PZ+3+AOA0002+ERJ2RKF10R0X+7+WW; ComponentLink1Description: http://industrial.panasonic.com/www-cgi/jvcr13pz.cgi?E+PZ+3+AOA0002+ERJ2RKF10R0X+7+WW
footprint RES_0402_M (Chip Resistor, 2-Leads, Body 1.00x0.50mm, IPC Medium Density)
pins: 1, 2

## 10_1%_0603
designator R?, comment 10
RES 10.0 OHM 1/10W 1% 0603 SMD; Manufacturer: Panasonic Electronic Components; Manufacturer Part Number: ERJ-3EKF10R0V; Power (Watts): 0.1W, 1/10W; Temperature Coefficient: ±100ppm/°C; Supplier 1: Digi-Key; Supplier Part Number 1: P10.0HCT-ND; RoHS: RoHS Compliant; Category: Resistors; Stock 1: 1454792; Pricing 1: 1=0.14, 50=0.0206, 100=0.0157, 250=0.01164, 500=0.0086, 1000=0.00574, 2500=0.00484 (CAD); Packaging: Cut Tape (CT); Resistance (Ohms): 10; Tolerance: ±1%; Composition: Thick Film; Features: Automotive AEC-Q200; Operating Temperature: -55°C ~ 155°C; Package / Case: 0603 (1608 Metric); Supplier Device Package: 0603; Size / Dimension: 0.063" L x 0.031" W (1.60mm x 0.80mm); Height: 0.022" (0.55mm); Number of Terminations: 2; ComponentLink1URL: http://industrial.panasonic.com/www-cgi/jvcr13pz.cgi?E+PZ+3+AOA0002+ERJ3EKF10R0V+7+WW; ComponentLink1Description: http://industrial.panasonic.com/www-cgi/jvcr13pz.cgi?E+PZ+3+AOA0002+ERJ3EKF10R0V+7+WW
footprint RES_0603 (Chip Resistor, 2-Leads, Body 1,6x0,8mm, IPC High Density)
pins: 1, 2

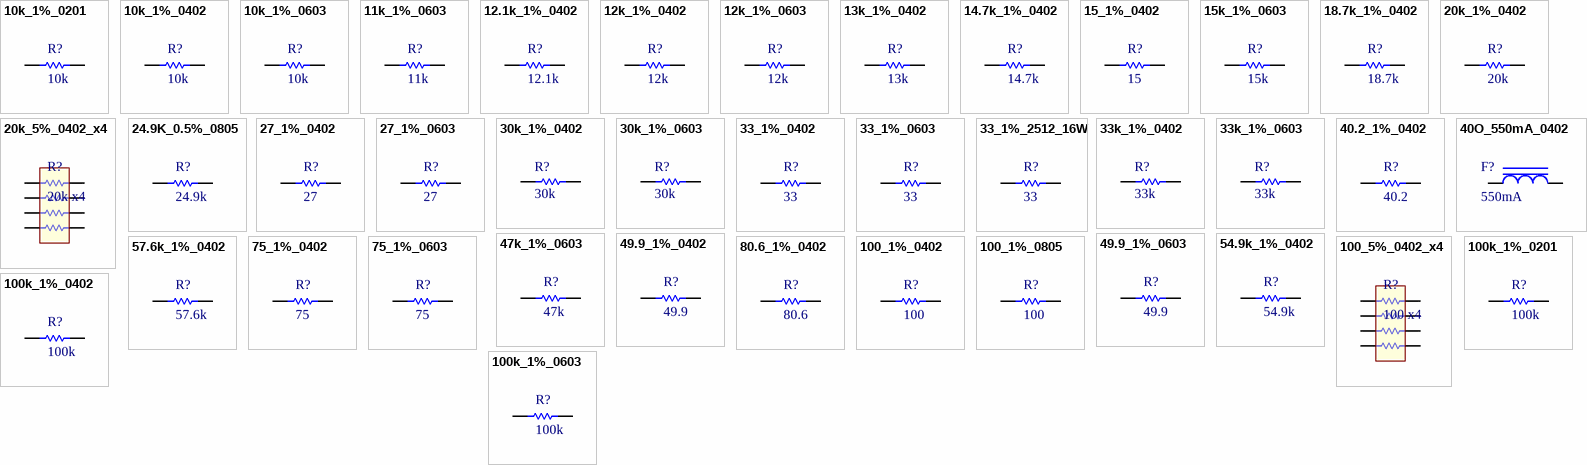
[diagram p1: symbols 10k_1%_0201 to 100k_1%_0603]

## 10k_1%_0201
designator R?, comment 10k
RES SMD 10K OHM 1% 1/20W 0201; Manufacturer: Panasonic Electronic Components; Manufacturer Part Number: ERJ-1GNF1002C; Power (Watts): 0.05W, 1/20W; Temperature Coefficient: ±200ppm/°C; Supplier 1: Digi-Key; RoHS: RoHS Compliant; Category: Resistors; Stock 1: 295971; Pricing 1: 1=0.1, 10=0.056, 100=0.0227, 1000=0.01021, 2500=0.00886, 5000=0.00732 (USD); Packaging: Cut Tape (CT); Part Status: Active; Tolerance: ±1%; Composition: Thick Film; Features: Automotive AEC-Q200; Operating Temperature: -55°C ~ 125°C; Package / Case: 0201 (0603 Metric); Supplier Device Package: 0201; Size / Dimension: 0.024" L x 0.012" W (0.60mm x 0.30mm); Height - Seated (Max): 0.010" (0.26mm); Failure Rate: -; ComponentLink1URL: https://industrial.panasonic.com/cdbs/www-data/pdf/RDA0000/AOA0000C304.pdf; ComponentLink1Description: https://industrial.panasonic.com/cdbs/www-data/pdf/RDA0000/AOA0000C304.pdf; Supplier Part Number 1: P122414CT-ND
footprint RESC0603X03N (Chip Resistor, 2-Leads, Body 0.60x0.30mm, IPC Medium Density)
pins: 1, 2

## 10k_1%_0402
designator R?, comment 10k
RES SMD 10K OHM 1% 1/10W 0402; Manufacturer: Panasonic Electronic Components; Manufacturer Part Number: ERJ-2RKF1002X; Power (Watts): 0.1W, 1/10W; Temperature Coefficient: ±100ppm/°C; Supplier 1: Digi-Key; RoHS: RoHS Compliant; Category: Resistors; Stock 1: 5818216; Pricing 1: 1=0.14, 50=0.0282, 100=0.0215, 250=0.01592, 500=0.01176, 1000=0.00784, 5000=0.00551 (CAD); Packaging: Cut Tape (CT); Resistance (Ohms): 10k; Tolerance: ±1%; Composition: Thick Film; Features: Automotive AEC-Q200; Operating Temperature: -55°C ~ 155°C; Package / Case: 0402 (1005 Metric); Supplier Device Package: 0402; Size / Dimension: 0.039" L x 0.020" W (1.00mm x 0.50mm); Height: 0.016" (0.40mm); Number of Terminations: 2; ComponentLink1URL: http://industrial.panasonic.com/www-cgi/jvcr13pz.cgi?E+PZ+3+AOA0002+ERJ2RKF1002X+7+WW; ComponentLink1Description: http://industrial.panasonic.com/www-cgi/jvcr13pz.cgi?E+PZ+3+AOA0002+ERJ2RKF1002X+7+WW; Supplier Part Number 1: P10.0KLCT-ND
footprint RES_0402_M (Chip Resistor, 2-Leads, Body 1.00x0.50mm, IPC Medium Density)
footprint RES_0402_L (Chip Resistor, 2-Leads, Body 1.00x0.50mm, IPC High Density)
pins: 1, 2

## 10k_1%_0603
designator R?, comment 10k
RES SMD 10K OHM 1% 1/10W 0603; Manufacturer: Panasonic Electronic Components; Manufacturer Part Number: ERJ-3EKF1002V; Power (Watts): 0.1W, 1/10W; Temperature Coefficient: ±100ppm/°C; Supplier 1: Digi-Key; Supplier Part Number 1: P10.0KHCT-ND; RoHS: RoHS Compliant; Category: Resistors; Stock 1: 7554180; Pricing 1: 1=0.14, 50=0.0206, 100=0.0157, 250=0.01164, 500=0.0086, 1000=0.00574, 2500=0.00484 (CAD); Packaging: Cut Tape (CT); Resistance (Ohms): 10k; Tolerance: ±1%; Composition: Thick Film; Features: Automotive AEC-Q200; Operating Temperature: -55°C ~ 155°C; Package / Case: 0603 (1608 Metric); Supplier Device Package: 0603; Size / Dimension: 0.063" L x 0.031" W (1.60mm x 0.80mm); Height: 0.022" (0.55mm); Number of Terminations: 2; ComponentLink1URL: http://industrial.panasonic.com/www-cgi/jvcr13pz.cgi?E+PZ+3+AOA0002+ERJ3EKF1002V+7+WW; ComponentLink1Description: http://industrial.panasonic.com/www-cgi/jvcr13pz.cgi?E+PZ+3+AOA0002+ERJ3EKF1002V+7+WW
footprint RES_0603 (Chip Resistor, 2-Leads, Body 1,6x0,8mm, IPC High Density)
pins: 1, 2

## 11k_1%_0603
designator R?, comment 11k
RES SMD 11K OHM 1% 1/10W 0603; Manufacturer: Panasonic Electronic Components; Manufacturer Part Number: ERJ-3EKF1102V; Power (Watts): 0.1W, 1/10W; Temperature Coefficient: ±100ppm/°C; Supplier 1: Digi-Key; Supplier Part Number 1: P11.0KHCT-ND; RoHS: RoHS Compliant; Category: Resistors; Stock 1: 77747; Pricing 1: 1=0.14, 50=0.0206, 100=0.0157, 250=0.01164, 500=0.0086, 1000=0.00574, 2500=0.00484 (CAD); Packaging: Cut Tape (CT); Resistance (Ohms): 11k; Tolerance: ±1%; Composition: Thick Film; Features: Automotive AEC-Q200; Operating Temperature: -55°C ~ 155°C; Package / Case: 0603 (1608 Metric); Supplier Device Package: 0603; Size / Dimension: 0.063" L x 0.031" W (1.60mm x 0.80mm); Height: 0.022" (0.55mm); Number of Terminations: 2; ComponentLink1URL: http://industrial.panasonic.com/www-cgi/jvcr13pz.cgi?E+PZ+3+AOA0002+ERJ3EKF1102V+7+WW; ComponentLink1Description: http://industrial.panasonic.com/www-cgi/jvcr13pz.cgi?E+PZ+3+AOA0002+ERJ3EKF1102V+7+WW
footprint RES_0603 (Chip Resistor, 2-Leads, Body 1,6x0,8mm, IPC High Density)
pins: 1, 2

## 12.1k_1%_0402
designator R?, comment 12.1k
RES SMD 12.1K OHM 1% 1/10W 0402; Manufacturer: Panasonic Electronic Components; Manufacturer Part Number: ERJ-2RKF1212X; Power (Watts): 0.1W, 1/10W; Temperature Coefficient: ±100ppm/°C; Supplier 1: Digi-Key; Supplier Part Number 1: P12.1KLCT-ND; RoHS: RoHS Compliant; Category: Resistors; Stock 1: 474353; Pricing 1: 1=0.16, 50=0.0242, 100=0.0178, 250=0.0136, 500=0.01092, 1000=0.00803, 5000=0.00575 (CAD); Packaging: Cut Tape (CT); Resistance (Ohms): 12.1k; Tolerance: ±1%; Composition: Thick Film; Features: Automotive AEC-Q200; Operating Temperature: -55°C ~ 155°C; Package / Case: 0402 (1005 Metric); Supplier Device Package: 0402; Size / Dimension: 0.039" L x 0.020" W (1.00mm x 0.50mm); Height: 0.016" (0.40mm); Number of Terminations: 2; ComponentLink1URL: http://industrial.panasonic.com/www-cgi/jvcr13pz.cgi?E+PZ+3+AOA0002+ERJ2RKF1212X+7+WW; ComponentLink1Description: http://industrial.panasonic.com/www-cgi/jvcr13pz.cgi?E+PZ+3+AOA0002+ERJ2RKF1212X+7+WW
footprint RES_0402_M (Chip Resistor, 2-Leads, Body 1.00x0.50mm, IPC Medium Density)
pins: 1, 2